# EAGLE library part AAT3681AIJS-4.2-T1 (library gee_s)
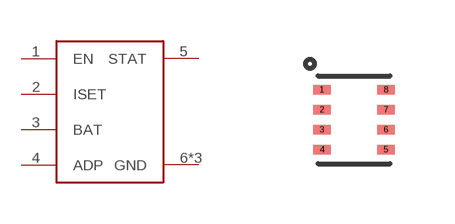
[diagram p30: symbol with the pads of SC70JW-8; footprint SC70JW-8]

Designator prefix -

## AAT3681AIJS-4.2-T1  [SC70JW-8]
1  EN
2  ISET
3  BAT
4  ADP
5  STAT
6  GND
7  GND
8  GND

## Footprint SC70JW-8 (pad centres in mm)
smd 0.46 x 0.23: 1 -0.8,0.75; 2 -0.8,0.25; 3 -0.8,-0.25; 4 -0.8,-0.75; 5 0.8,-0.75; 6 0.8,-0.25; 7 0.8,0.25; 8 0.8,0.75